# Altium schematic symbol library nxp_sot669.SCHLIB: 2 symbols
Pins are listed as number, name and electrical type; pins without a type are passive.

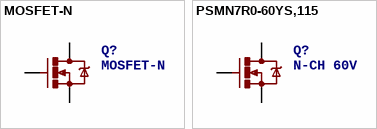
[diagram p0: symbols MOSFET-N to PSMN7R0-60YS,115]

## MOSFET-N
designator Q?
PROD_ID: IC-08089
footprint SOT669
pins: D, G, S

## PSMN7R0-60YS,115
designator Q?, comment N-CH 60V
MOSFET N-CH 60V LFPAK NXP PSMN7R0-60YS,115; PROD_ID: IC-08089; Supplier 1: Digi-Key; Supplier Part Number 1: 568-5596-1-ND
footprint SOT669
pins: D, G, S